# Altium footprint library PCB - LEADLESS - BGA - STM VFBGA142 B0GM.PcbLib: 1 footprints
Each footprint in its own frame and in the unit in brackets; x right, y up, seen from the top. Pads: shape width x height; smd on the part's side, far side on the other; paste and mask are expansions set on the pad; w line width, h text height; cw(c..) or ccw(c..) is an arc to the next point about the centre after c.
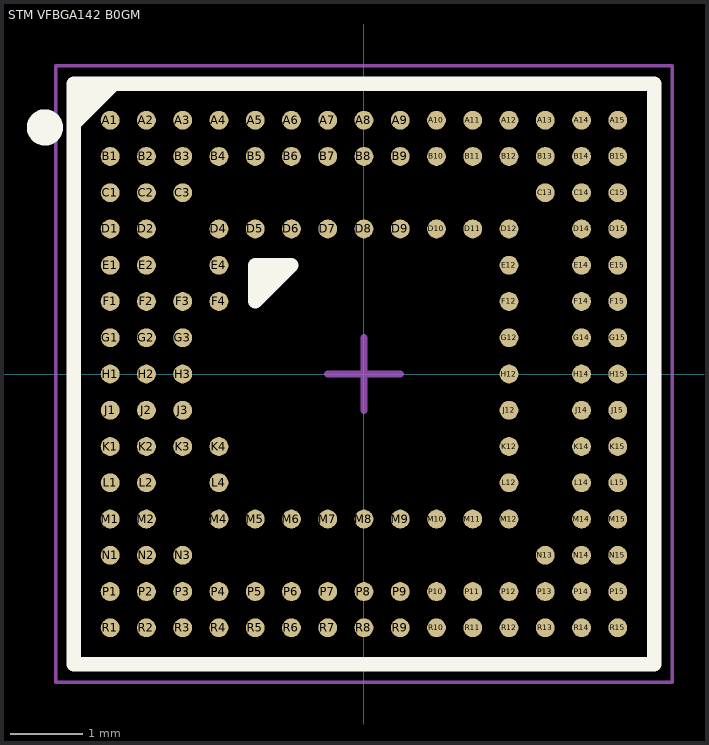
[diagram p0: the footprint, top view; thin cyan lines are the x and y axes]

## STM VFBGA142 B0GM [mm] "VFBGA, 142-Leads, Body 8.00x8.00mmx1.00mm, Pitch 0.50mm"
height 1
pads (142):
  round 0.26 smd: A1(-3.5,3.5) A2(-3,3.5) A3(-2.5,3.5) A4(-2,3.5) A5(-1.5,3.5) A6(-1,3.5) A7(-0.5,3.5) A8(0,3.5) A9(0.5,3.5) A10(1,3.5) A11(1.5,3.5) A12(2,3.5) A13(2.5,3.5) A14(3,3.5) A15(3.5,3.5) B1(-3.5,3) B2(-3,3) B3(-2.5,3) B4(-2,3) B5(-1.5,3) B6(-1,3) B7(-0.5,3) B8(0,3) B9(0.5,3) B10(1,3) B11(1.5,3) B12(2,3) B13(2.5,3) B14(3,3) B15(3.5,3) C1(-3.5,2.5) C2(-3,2.5) C3(-2.5,2.5) C13(2.5,2.5) C14(3,2.5) C15(3.5,2.5) D1(-3.5,2) D2(-3,2) D4(-2,2) D5(-1.5,2) D6(-1,2) D7(-0.5,2) D8(0,2) D9(0.5,2) D10(1,2) D11(1.5,2) D12(2,2) D14(3,2) D15(3.5,2) E1(-3.5,1.5) E2(-3,1.5) E4(-2,1.5) E12(2,1.5) E14(3,1.5) E15(3.5,1.5) F1(-3.5,1) F2(-3,1) F3(-2.5,1) F4(-2,1) F12(2,1) F14(3,1) F15(3.5,1) G1(-3.5,0.5) G2(-3,0.5) G3(-2.5,0.5) G12(2,0.5) G14(3,0.5) G15(3.5,0.5) H1(-3.5,0) H2(-3,0) H3(-2.5,0) H12(2,0) H14(3,0) H15(3.5,0) J1(-3.5,-0.5) J2(-3,-0.5) J3(-2.5,-0.5) J12(2,-0.5) J14(3,-0.5) J15(3.5,-0.5) K1(-3.5,-1) K2(-3,-1) K3(-2.5,-1) K4(-2,-1) K12(2,-1) K14(3,-1) K15(3.5,-1) L1(-3.5,-1.5) L2(-3,-1.5) L4(-2,-1.5) L12(2,-1.5) L14(3,-1.5) L15(3.5,-1.5) M1(-3.5,-2) M2(-3,-2) M4(-2,-2) M5(-1.5,-2) M6(-1,-2) M7(-0.5,-2) M8(0,-2) M9(0.5,-2) M10(1,-2) M11(1.5,-2) M12(2,-2) M14(3,-2) M15(3.5,-2) N1(-3.5,-2.5) N2(-3,-2.5) N3(-2.5,-2.5) N13(2.5,-2.5) N14(3,-2.5) N15(3.5,-2.5) P1(-3.5,-3) P2(-3,-3) P3(-2.5,-3) P4(-2,-3) P5(-1.5,-3) P6(-1,-3) P7(-0.5,-3) P8(0,-3) P9(0.5,-3) P10(1,-3) P11(1.5,-3) P12(2,-3) P13(2.5,-3) P14(3,-3) P15(3.5,-3) R1(-3.5,-3.5) R2(-3,-3.5) R3(-2.5,-3.5) R4(-2,-3.5) R5(-1.5,-3.5) R6(-1,-3.5) R7(-0.5,-3.5) R8(0,-3.5) R9(0.5,-3.5) R10(1,-3.5) R11(1.5,-3.5) R12(2,-3.5) R13(2.5,-3.5) R14(3,-3.5) R15(3.5,-3.5)
Top Overlay:
  circle w0.25: c-4.4,3.4 r0.125
  region: -1.5,1.5 -1,1.5 -1.5,1
  region: -3.45,4 -4,3.45 -4,4
  lines w0.2: -4,3.45 -3.475,3.975 ; -4,-4 -4,4 4,4 4,-4 -4,-4 ; -1.5,1 -1,1.5 -1.5,1.5 -1.5,1
Mechanical 13:
  lines w0.1: -4,-4 -4,4 4,4 4,-4 -4,-4
Mechanical 15:
  lines w0.05: -4.25,-4.25 -4.25,4.25 4.25,4.25 4.25,-4.25 -4.25,-4.25
  lines w0.1: -0.5,0 0.5,0 ; 0,-0.5 0,0.5
3D body "STM VFBGA142 B0GM.step": height 1, standoff 0, extent -4,-4 4,4